# Altium schematic symbol library light.SCHLIB: 1 symbol
Pins are listed as number, name and electrical type; pins without a type are passive.

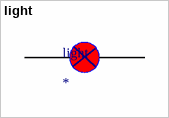
[diagram p0: symbol light]

## light
designator light
pins: ?1, ?2